# Altium schematic symbol library INA169.SCHLIB: 1 symbol
Pins are listed as number, name and electrical type; pins without a type are passive.

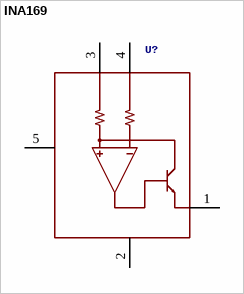
[diagram p0: symbol INA169]

## INA169
designator U?
GateName_1: G$1; SymbolName_1: INA169; Description: the ina139 and ina169 are high-side unipolar current shunt monitors. wide input common-mode voltage range high-speed ...; MF: Texas Instruments; LibraryName: INA169; DeviceSetName: INA169; Package: SOT23-5; Price: None; Availability: Unavailable; MP: INA169; Package: None
footprint SOT23-5
pins: 1 OUT, 2 GND, 3 VIN+, 4 VIN-, 5 V+